# EAGLE library part LM2599T-5.0 (library LM2599T)
SWITCHING REG 3A 5.0V, 2599
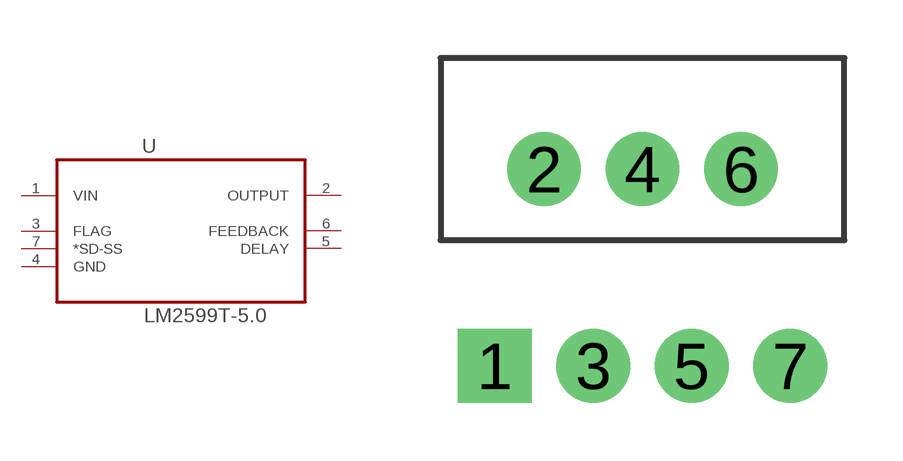
[diagram p0: symbol with the pads of TO127P470X1016X1740-7P; footprint TO127P470X1016X1740-7P]

Designator prefix U

## LM2599T-5.0 (MPN: LM2599T-5.0; OC_FARNELL: 9494103; OC_NEWARK: 38K3657; PACKAGE: TO220-7; SUPPLIER: National Semiconductor)  [TO127P470X1016X1740-7P]
1  VIN  in
2  OUTPUT  out
3  FLAG  pas
4  GND  pas
5  DELAY  in
6  FEEDBACK  in
7  *SD-SS  in

## Footprint TO127P470X1016X1740-7P (pad centres in mm)
drill 1.27 square: 1 -7.62,-11.201
drill 1.27: 2 -6.35,-6.121; 3 -5.08,-11.201; 4 -3.81,-6.121; 5 -2.54,-11.201; 6 -1.27,-6.121; 7 0,-11.201